# Altium footprint library CUI_TBP02R138102BE.PcbLib: 1 footprints
Each footprint in its own frame and in the unit in brackets; x right, y up, seen from the top. Pads: shape width x height; smd on the part's side, far side on the other; paste and mask are expansions set on the pad; w line width, h text height; cw(c..) or ccw(c..) is an arc to the next point about the centre after c.
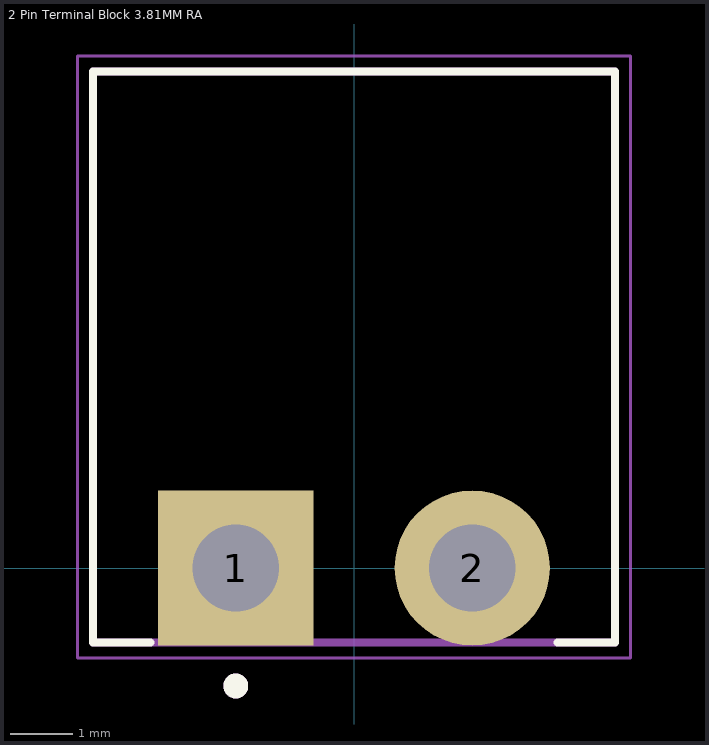
[diagram p0: the footprint, top view; thin cyan lines are the x and y axes]

## 2 Pin Terminal Block 3.81MM RA [mm] "2 Pin Terminal Block HDR 3.81MM THT RA TBP02R138102BE"
height 7.2
pads (2):
  rect 2.5x2.5 hole 1.4: 1(-1.905,0)
  round 2.5 hole 1.4: 2(1.905,0)
Top Overlay:
  circle w0.2: c-1.905,-1.9 r0.1
  lines w0.127: -3.275,-1.2 -4.205,-1.2 -4.205,8 4.205,8 4.205,-1.2 3.275,-1.2
Assembly Top:
  circle w0.2: c-1.905,-1.9 r0.1
  lines w0.127: -4.205,-1.2 -4.205,8 4.205,8 4.205,-1.2 -4.205,-1.2
Courtyard Top:
  lines w0.05: -4.455,-1.45 -4.455,8.25 4.455,8.25 4.455,-1.45 -4.455,-1.45
3D body "step_temp.STEP": height 7.2, standoff -3.5, extent -4.191,-1.171 4.219,8.029